# Altium footprint library ComponentLibrary.PcbLib: 153 footprints (part 10 of 10)
Each footprint in its own frame and in the unit in brackets; x right, y up, seen from the top. Pads: shape width x height; smd on the part's side, far side on the other; paste and mask are expansions set on the pad; w line width, h text height; cw(c..) or ccw(c..) is an arc to the next point about the centre after c.
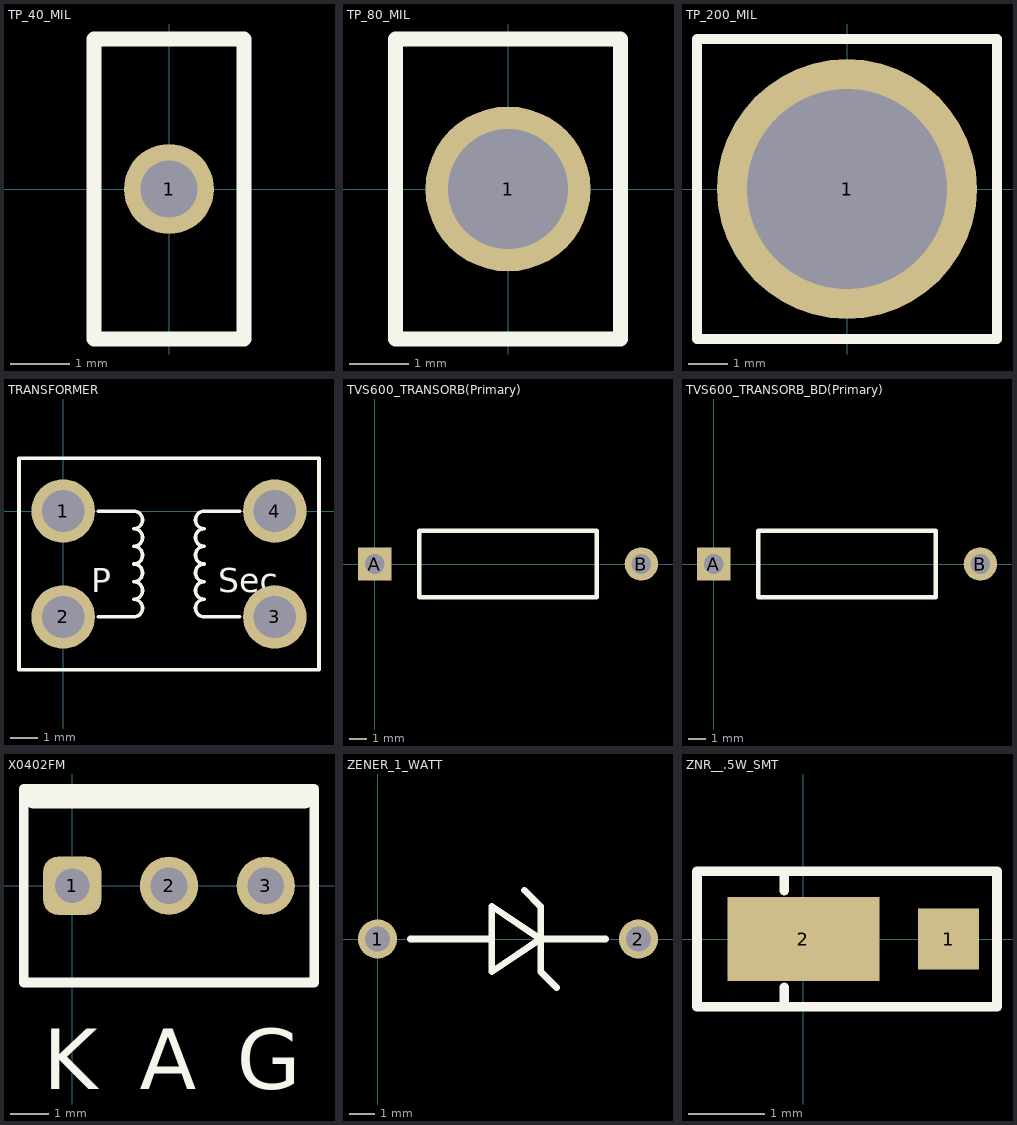
[diagram p9: the footprints below, top view; thin cyan lines are the x and y axes]

## TP_40_MIL [mil]
pads (1):
  round 60 hole 38: 1(0,0)
Top Overlay:
  lines w10: -50,-100 -50,100 50,100 50,-100 -50,-100

## TP_80_MIL [mil]
pads (1):
  round 110 hole 80: 1(0,0)
Top Overlay:
  lines w10: -75,-100 -75,100 75,100 75,-100 -75,-100

## TP_200_MIL [mil]
pads (1):
  round 260 hole 200: 1(0,0)
Top Overlay:
  lines w10: -150,-150 -150,150 150,150 150,-150 -150,-150

## TRANSFORMER [mil]
pads (4):
  round 90 hole 60: 1(0,0) 2(0,-150) 3(300,-150) 4(300,0)
Top Overlay:
  lines w5: 50,-150 100,-150 ccw(c100,-137.5) 100,-125 ccw(c100,-112.5) 100,-100 ccw(c100,-87.5) 100,-75 ccw(c100,-62.5) 100,-50 ccw(c100,-37.5) 100,-25 ccw(c100,-12.5) 100,0 50,0 ; 250,-150 200,-150 cw(c200,-137.5) 200,-125 cw(c200,-112.5) 200,-100 cw(c200,-87.5) 200,-75 cw(c200,-62.5) 200,-50 cw(c200,-37.5) 200,-25 cw(c200,-12.5) 200,0 250,0 ; -62.5,-225 362.5,-225 362.5,75 -62.5,75 -62.5,-225
  text "Sec" at 220,-115 h34.38
  text "P" at 40,-115 h34.38

## TVS600_TRANSORB(Primary) [mil]
pads (2):
  rect 75x75 hole 44: A(0,0)
  round 75 hole 44: B(600,0)
Top Overlay:
  lines w10: 100,-75 500,-75 500,75 100,75 100,-75

## TVS600_TRANSORB_BD(Primary) [mil]
pads (2):
  rect 75x75 hole 44: A(0,0)
  round 75 hole 44: B(600,0)
Top Overlay:
  lines w10: 100,-75 500,-75 500,75 100,75 100,-75

## X0402FM [mil]
pads (3):
  rrect50% 60x60 hole 36: 1(0,0)
  round 60 hole 38: 2(100,0) 3(200,0)
Top Overlay:
  lines w10: -50,-100 250,-100 250,100 -50,100 -50,-100
  lines w20: -40,90 240,90
  text "A" at 70,-210 h62.5
  text "G" at 170,-210 h62.5
  text "K" at -30,-210 h62.5

## ZENER_1_WATT [mil]
pads (2):
  round 60 hole 38: 1(0,0) 2(400,0)
Top Overlay:
  lines w10: 50,0 175,0 ; 225,75 250,50 250,-50 275,-75 ; 350,0 250,0 ; 250,0 175,50 175,-50 250,0

## ZNR__.5W_SMT [mil]
pads (2):
  rect 31.5x31.5 smd: 1(75,0)
  rect 78.7x43.3 smd: 2(0,0)
Top Overlay:
  lines w5: -10,-35 -10,-25 ; -10,25 -10,35 ; -55,-35 -55,35 100,35 100,-35 -55,-35